# Altium footprint library Signetik-passives.PcbLib: 52 footprints (part 3 of 4)
Each footprint in its own frame and in the unit in brackets; x right, y up, seen from the top. Pads: shape width x height; smd on the part's side, far side on the other; paste and mask are expansions set on the pad; w line width, h text height; cw(c..) or ccw(c..) is an arc to the next point about the centre after c.
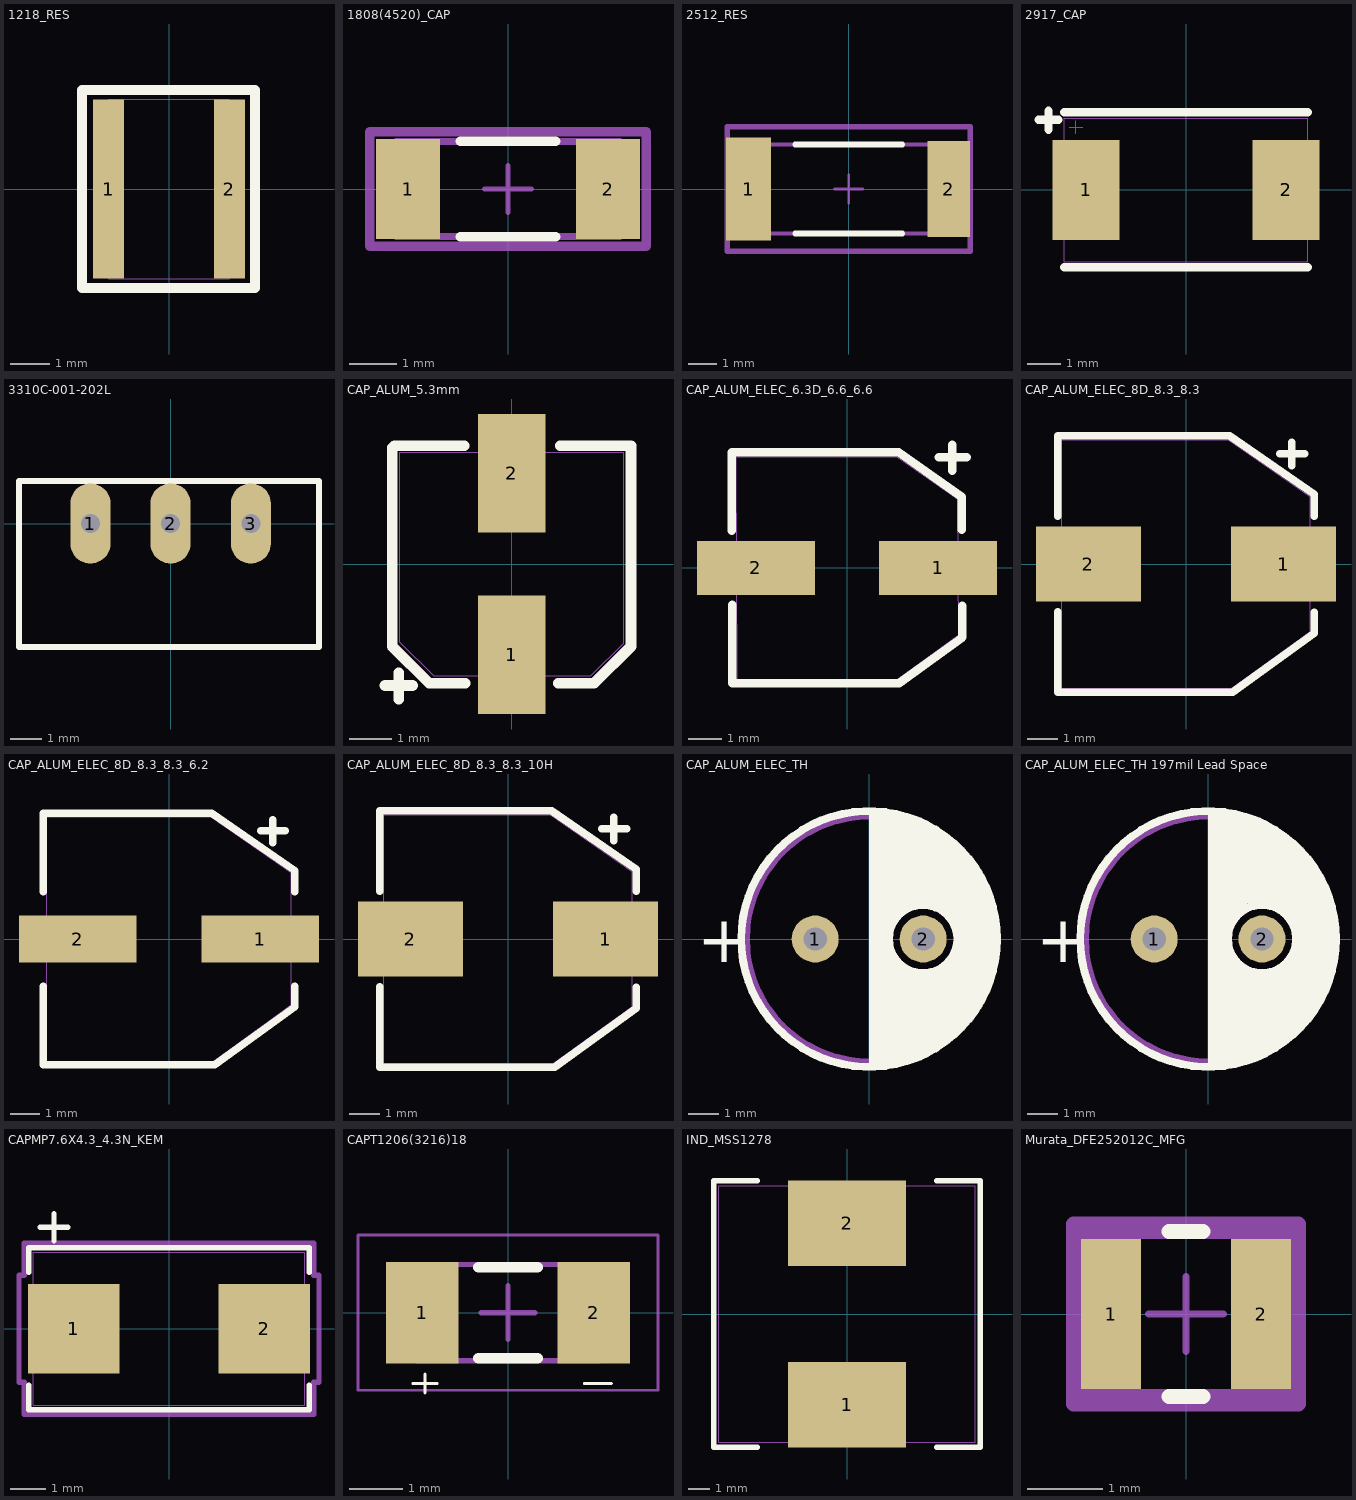
[diagram p2: the footprints below, top view; thin cyan lines are the x and y axes]

## 1218_RES [mil]
height 21.6
pads (2):
  rect 31.5x181 smd: 1(-61,0) 2(61,0)
Top Overlay:
  lines w10: -88,-100 -88,100 ; -87,-100 87,-100 87,100 -87,100
Mechanical 13:
  lines w1: -61,-90.6 -61,90.6 61,90.6 61,-90.6 -61,-90.6

## 1808(4520)_CAP [mm]
pads (2):
  rect 1.35x2.1 smd paste+0 mask+0: 1(-2.1,0) 2(2.1,0)
Top Overlay:
  lines w0.2: -1,-1 1,-1 ; -1,1 1,1
Mechanical 10:
  lines w0.2: -2.9,-1.2 2.9,-1.2 2.9,1.2 -2.9,1.2 -2.9,-1.2
  text ".Designator" at 0,0 h1
Mechanical 12:
  lines w0.15: -2.35,-1 2.35,-1 2.35,1 -2.35,1 -2.35,-1
Mechanical 15:
  lines w0.1: -0.5,0 0.5,0 ; 0,-0.5 0,0.5
  lines w0.2: -2.9,-1.2 2.9,-1.2 2.9,1.2 -2.9,1.2 -2.9,-1.2
3D body "3dmodel.step": height 0.25, standoff 0, extent -2.9,-1.2 2.9,1.2

## 2512_RES [mm]
pads (2):
  rect 1.6x3.65 smd paste+0 mask+0: 1(-3.55,0)
  rect 1.505x3.408 smd paste+0 mask+0: 2(3.55,0)
Top Overlay:
  lines w0.2: -1.9,-1.575 1.9,-1.575 ; -1.9,1.575 1.9,1.575
Mechanical 10:
  lines w0.2: -4.303,-2.204 4.303,-2.204 4.303,2.204 -4.303,2.204 -4.303,-2.204
Mechanical 12:
  lines w0.15: -3.15,-1.575 3.15,-1.575 3.15,1.575 -3.15,1.575 -3.15,-1.575
Mechanical 13:
  lines w0.025: -3.15,-1.575 -3.15,1.575 3.15,1.575 3.15,-1.575 -3.15,-1.575
  text ".Designator" at -1.905,-0.635 h1
Mechanical 15:
  lines w0.1: -0.5,0 0.5,0 ; 0,-0.5 0,0.5
  lines w0.2: -4.303,-2.204 4.303,-2.204 4.303,2.204 -4.303,2.204 -4.303,-2.204
3D body: height 0.6, standoff 0, extent -3.15,-1.575 3.15,1.575

## 2917_CAP [mm] "2917 (7343-43 metric)"
height 4.1
pads (2):
  rect 2x3 smd: 1(-3,0) 2(3,0)
Top Overlay:
  lines w0.254: -4.425,2.1 -3.825,2.1 ; -4.125,1.8 -4.125,2.375 ; -3.65,-2.325 3.65,-2.325 ; -3.65,2.325 3.65,2.325
Mechanical 13:
  lines w0.025: -3.5,1.875 -3.1,1.875 ; -3.3,1.675 -3.3,2.075 ; -3.65,-2.15 3.65,-2.15 3.65,2.15 -3.65,2.15 -3.65,-2.15
  text "'.Designator'" at 3.75,-2.15 h0.76
3D body "2917_CASE.STEP": height 3.01, standoff 0, extent -3.7,-2.15 3.7,2.3

## 3310C-001-202L [mm]
pads (3):
  oval 1.27x2.54 hole 0.6: 1(-2.54,0) 2(0,0) 3(2.54,0)
Top Overlay:
  lines w0.203: -4.801,-3.91 -4.801,1.346 4.699,1.346 4.699,-3.91 -4.801,-3.91
3D body "3310c-001.stp": height 9.7, standoff -5.79, extent -4.762,-15.938 4.763,1.27

## CAP_ALUM_5.3mm [mm] "Aluminum Capacitor 5.3mm x 5.3mm"
height 6.1
pads (2):
  rect 1.6x2.8 smd: 1(0,-2.15) 2(0,2.15)
Top Overlay:
  lines w0.254: -3,-2.875 -2.35,-2.875 ; -2.675,-3.2 -2.675,-2.575 ; -1.125,2.8 -2.775,2.8 -2.825,2.75 -2.825,-1.95 -1.95,-2.825 -1.1,-2.825 ; 1.1,-2.825 1.95,-2.825 2.825,-1.95 2.825,2.8 1.15,2.8
Mechanical 13:
  lines w0.025: -2.65,-1.85 -2.65,2.65 2.65,2.65 2.65,-1.875 1.875,-2.65 -1.85,-2.65 -2.65,-1.85
3D body "CAP_EEFK_C.step": height 6.15, standoff 0, extent -2.756,-3.251 2.756,3.251

## CAP_ALUM_ELEC_6.3D_6.6_6.6 [mm] "Electrolytic 6.3mm Dia. 6.6mm x 6.6mm Polarized"
height 5.4
pads (2):
  rect 3.5x1.6 smd: 1(2.7,0) 2(-2.7,0)
Top Overlay:
  lines w0.254: -3.425,1.1 -3.425,3.425 1.54,3.425 3.4,2.107 3.4,1.125 ; -3.4,-1.1 -3.4,-3.425 1.544,-3.425 3.425,-2.067 3.425,-1.125 ; 2.725,3.275 3.55,3.275 ; 3.125,2.875 3.125,3.65
Mechanical 13:
  lines w0.025: -3.3,3.275 -3.275,-3.3 1.5,-3.3 3.3,-2 3.275,2.05 1.475,3.3 -3.3,3.3
  text ".Designator" at -2.159,-3.048 h0.76
  text "+" at 1.905,0.889 h2.54

## CAP_ALUM_ELEC_8D_8.3_8.3 [mm] "Electrolytic 8mm Dia. 8.3mm x 8.3mm Polarized"
height 10.5
pads (2):
  rect 3.5x2.5 smd: 1(3.25,0) 2(-3.25,0)
Top Overlay:
  lines w0.254: -4.275,-1.6 -4.275,-4.275 1.55,-4.275 4.275,-2.307 4.275,-1.608 ; -4.275,1.6 -4.275,4.275 1.45,4.275 4.275,2.325 4.275,1.6 ; 3.125,3.675 3.95,3.675 ; 3.525,3.275 3.525,4.05
Mechanical 13:
  lines w0.025: 4.138,-2.259 1.519,-4.15 -4.15,-4.15 -4.15,4.15 1.414,4.15 4.15,2.25 4.15,-2.25
  text ".Designator" at -2.54,-3.81 h0.76
  text "+" at 2.667,1.27 h2.54
3D body "PCAP_8x10-ELECT-L.step": height 10.34, standoff 0, extent -4.648,-4.254 4.648,4.254

## CAP_ALUM_ELEC_8D_8.3_8.3_6.2 [mm] "Electrolytic 8mm Dia. 8.3mm x 8.3mm x 6.2mm Polarized"
height 6.2
pads (2):
  rect 4x1.6 smd: 1(3.1,0) 2(-3.1,0)
Top Overlay:
  lines w0.254: -4.275,-1.6 -4.275,-4.275 1.55,-4.275 4.275,-2.307 4.275,-1.608 ; -4.275,1.6 -4.275,4.275 1.45,4.275 4.275,2.325 4.275,1.6 ; 3.125,3.675 3.95,3.675 ; 3.525,3.275 3.525,4.05
Mechanical 13:
  lines w0.025: 4.138,-2.259 1.519,-4.15 -4.15,-4.15 -4.15,4.15 1.414,4.15 4.15,2.25 4.15,-2.25
  text "+" at 2.794,1.016 h2.54
  text ".Designator" at 4.138,-2.259 h0.76

## CAP_ALUM_ELEC_8D_8.3_8.3_10H [mm] "Electrolytic 8mm Dia. 8.3mm x 8.3mm Polarized"
height 10.5
pads (2):
  rect 3.5x2.5 smd: 1(3.25,0) 2(-3.25,0)
Top Overlay:
  lines w0.254: -4.275,-1.6 -4.275,-4.275 1.55,-4.275 4.275,-2.307 4.275,-1.608 ; -4.275,1.6 -4.275,4.275 1.45,4.275 4.275,2.325 4.275,1.6 ; 3.125,3.675 3.95,3.675 ; 3.525,3.275 3.525,4.05
Mechanical 13:
  lines w0.025: 4.138,-2.259 1.519,-4.15 -4.15,-4.15 -4.15,4.15 1.414,4.15 4.15,2.25 4.15,-2.25
  text ".Designator" at -2.54,-3.81 h0.76
  text "+" at 2.667,1.27 h2.54
3D body "PCAP_8x10-ELECT-L.step": height 10.34, standoff 0, extent -4.648,-4.254 4.648,4.254

## CAP_ALUM_ELEC_TH [mil] "Capacitor Aluminum Electrolytic 315mil Dia. 512mil Ht."
height 512
pads (2):
  round 60 hole 30: 1(-69,0) 2(69,0)
Top Overlay:
  circle w10: c0,0 r163.48
  circle w10: c69,0 r43.6
  lines w10: 5,-160 5,160 ; 15,-160 15,160 ; 25,-157 25,157 ; 35,-156 35,-30 ; 35,30 35,156 ; 45,-155 45,-40 ; 45,40 45,155 ; 55,-150 55,-45 ; 55,45 55,150 ; 65,-150 65,-47.5 ; 65,45 65,150 ; 75,-145 75,-47.5 ; 75,45 75,145 ; 85,-140 85,-42.5 ; 85,40 85,140 ; 95,-130 95,-37.5 ; 95,35 95,130 ; 105,-125 105,-27.5 ; 105,25 105,125 ; 115,-115 115,-17.5 ; 115,5 115,115 ; 120,-100 120,110 ; 130,-100 130,100 ; 140,-85 140,85 ; 150,-65 150,65 ; 155,-35 155,35
  text "+" at -220,-30 h60
Mechanical 1:
  circle w1: c0,0 r157.5
Mechanical 13:
  circle w10: c0,0 r157.5
  text ".Designator" at -7.01,-5 h30
3D body "CAP_YX_8X11P5.step": height 512.6, standoff -172.01, extent -167.4,-167.5 167.85,167.5

## CAP_ALUM_ELEC_TH 197mil Lead Space [mil] "Capacitor Aluminum Electrolytic 315mil Dia. 512mil Ht. 197mil lead space"
height 512
pads (2):
  round 60 hole 30: 1(-68.9,0) 2(68.9,0)
Top Overlay:
  circle w10: c0,0 r163.48
  circle w10: c68.9,0 r43.6
  lines w10: 5,-160 5,160 ; 15,-160 15,160 ; 25,-160 25,-10 25,158 ; 35,-158 35,-29 ; 35,30 35,157 ; 45,-155 45,-40 ; 45,40 45,155 ; 55,-153 55,-44 ; 55,47 55,153 ; 65,-147 65,-46 ; 65,44 65,150 ; 75,-143 75,-49 ; 75,47 75,145 ; 85,-136 85,-43 ; 85,43 85,135 ; 95,-130 95,-38 ; 95,39 95,130 ; 105,-125 105,-26 ; 105,27 105,125 ; 115,-115 115,49 ; 115,40 115,115 ; 125,-105 125,48 ; 125,35 125,105 ; 135,-90 135,25 135,90 ; 145,-75 145,5 145,75 ; 155,-50 155,50
  text "+" at -220,-30 h60
Mechanical 1:
  circle w1: c0,0 r157.5
Mechanical 13:
  circle w10: c0,0 r157.5
  text ".Designator" at -7.01,-5 h30
3D body "CAP_YX_8X11P5.step": height 512.6, standoff -172.01, extent -200.25,-167.5 135,167.5

## CAPMP7.6X4.3_4.3N_KEM [mm]
pads (2):
  rect 2.56x2.5 smd paste+0 mask+0: 1(-2.672,0) 2(2.672,0)
Top Overlay:
  lines w0.152: -3.927,-1.583 -3.927,-2.277 3.927,-2.277 3.927,-1.583 ; -3.927,1.583 -3.927,2.277 3.927,2.277 3.927,1.583 ; -3.606,2.85 -2.844,2.85 ; -3.225,2.469 -3.225,3.231
Mechanical 13:
  lines w0.025: -3.606,2.85 -2.844,2.85 ; -3.225,2.469 -3.225,3.231 ; -3.8,-2.15 3.8,-2.15 3.8,2.15 -3.8,2.15 -3.8,-2.15
Mechanical 15:
  lines w0.152: -4.206,-1.504 -4.206,1.504 -4.054,1.504 -4.054,2.404 4.054,2.404 4.054,1.504 4.206,1.504 4.206,-1.504 4.054,-1.504 4.054,-2.404 -4.054,-2.404 -4.054,-1.504 -4.206,-1.504
3D body: height 0.25, standoff 0, extent 0,0 0.254,0.254
3D body "CTSM_TCM2NK_7343_L7.6W4.6H4.3T0.13S1.3F2.5A3.6B0.65E3.5G3.5P1.7R1X0.2.STEP": height 4.31, standoff 0, extent -3.8,-2.314 3.8,2.286

## CAPT1206(3216)18 [mm] "Chip Capacitor, Body 3.2x1.6mm, Height 1.7mm, IPC Low Density"
height 1.7
pads (2):
  rect 1.35x1.9 smd: 1(-1.6,0) 2(1.6,0)
Top Overlay:
  lines w0.051: -1.778,-1.321 -1.321,-1.321 ; -1.549,-1.499 -1.549,-1.143 ; 1.422,-1.321 1.93,-1.321
  lines w0.2: -0.55,-0.85 0.55,-0.85 ; -0.55,0.85 0.55,0.85
Mechanical 13:
  lines w0.1: -1.7,-0.9 1.7,-0.9 1.7,0.9 -1.7,0.9 -1.7,-0.9
  text ".Designator" at -1.44,1.072 h0.76
Mechanical 15:
  lines w0.05: -2.8,-1.45 2.8,-1.45 2.8,1.45 -2.8,1.45 -2.8,-1.45
  lines w0.1: -0.5,0 0.5,0 ; 0,-0.5 0,0.5
3D body "T491A475K016AT.step": height 1.71, standoff -0.09, extent -1.649,-0.889 1.751,0.911

## IND_MSS1278 [mil] "Inductor MSS1278 484mil x 484mil"
height 307
pads (2):
  rect 217x157 smd: 1(0,-167) 2(0,167)
Top Overlay:
  lines w10: -165,-245 -245,-245 -245,245 -165,245 ; 165,-245 245,-245 245,245 165,245
Mechanical 1:
  lines w1: -236,-236 -236,236 236,236 236,-236 -236,-236
Mechanical 13:
  text ".Designator" at -7.01,-5 h30

## Murata_DFE252012C_MFG [mm]
pads (2):
  rect 0.8x2 smd paste+0 mask+0: 1(-1,0) 2(1,0)
Top Overlay:
  lines w0.2: -0.225,-1.1 0.225,-1.1 ; -0.225,1.1 0.225,1.1
Mechanical 10:
  lines w0.2: -1.5,-1.2 -1.5,1.2 1.5,1.2 1.5,-1.2 -1.5,-1.2
  text ".Designator" at 0,0.188 h1
Mechanical 12:
  lines w0.2: -1.35,-1.1 -1.35,1.1 1.35,1.1 1.35,-1.1 -1.35,-1.1
Mechanical 15:
  lines w0.1: -0.5,0 0.5,0 ; 0,-0.5 0,0.5
  lines w0.2: -1.5,-1.2 -1.5,1.2 1.5,1.2 1.5,-1.2 -1.5,-1.2
3D body "Ind_Murata_DFE252012P-2R2M=P2_eec.STEP": height 0.25, standoff 0, extent -1.5,-1.2 1.5,1.2